# Altium footprint library DO-214AA.PcbLib: 1 footprints
Each footprint in its own frame and in the unit in brackets; x right, y up, seen from the top. Pads: shape width x height; smd on the part's side, far side on the other; paste and mask are expansions set on the pad; w line width, h text height; cw(c..) or ccw(c..) is an arc to the next point about the centre after c.
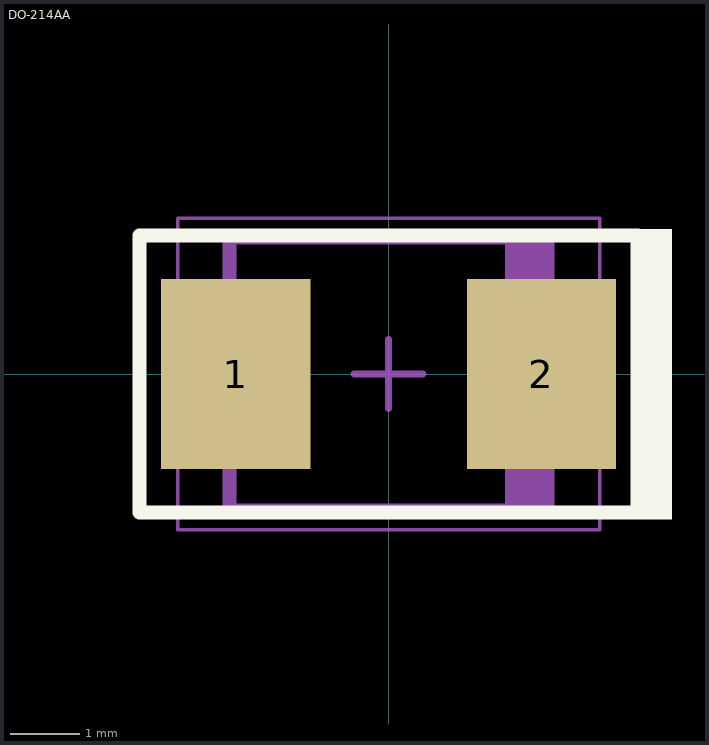
[diagram p0: the footprint, top view; thin cyan lines are the x and y axes]

## DO-214AA [mil]
height 96.46
pads (2):
  rect 85x107.99 smd: 1(-87.01,0) 2(87.01,0)
Top Overlay:
  rectangle: 141.73,-82.68 161.41,82.67
  lines w7.87: -141.73,-78.74 141.73,-78.74 141.73,78.74 -141.73,78.74 -141.73,-78.74
Mechanical 7:
  rectangle: 66.19,-77.76 90.55,77.76
  lines w7.87: -90.55,-77.76 -90.55,77.76 90.55,77.76 90.55,-77.76 -90.55,-77.76
Mechanical 15:
  lines w1.97: -120.08,-88.58 -120.08,88.58 120.08,88.58 120.08,-88.58 -120.08,-88.58
  lines w3.94: -19.69,0 19.68,0 ; 0,-19.68 0,19.69
3D body "P6SMB.step": height 96.46, standoff 0, extent -99.21,-77.76 99.21,77.76